# Altium footprint library aiskylab-08Optoelectronics.PcbLib: 57 footprints (part 3 of 4)
Each footprint in its own frame and in the unit in brackets; x right, y up, seen from the top. Pads: shape width x height; smd on the part's side, far side on the other; paste and mask are expansions set on the pad; w line width, h text height; cw(c..) or ccw(c..) is an arc to the next point about the centre after c.
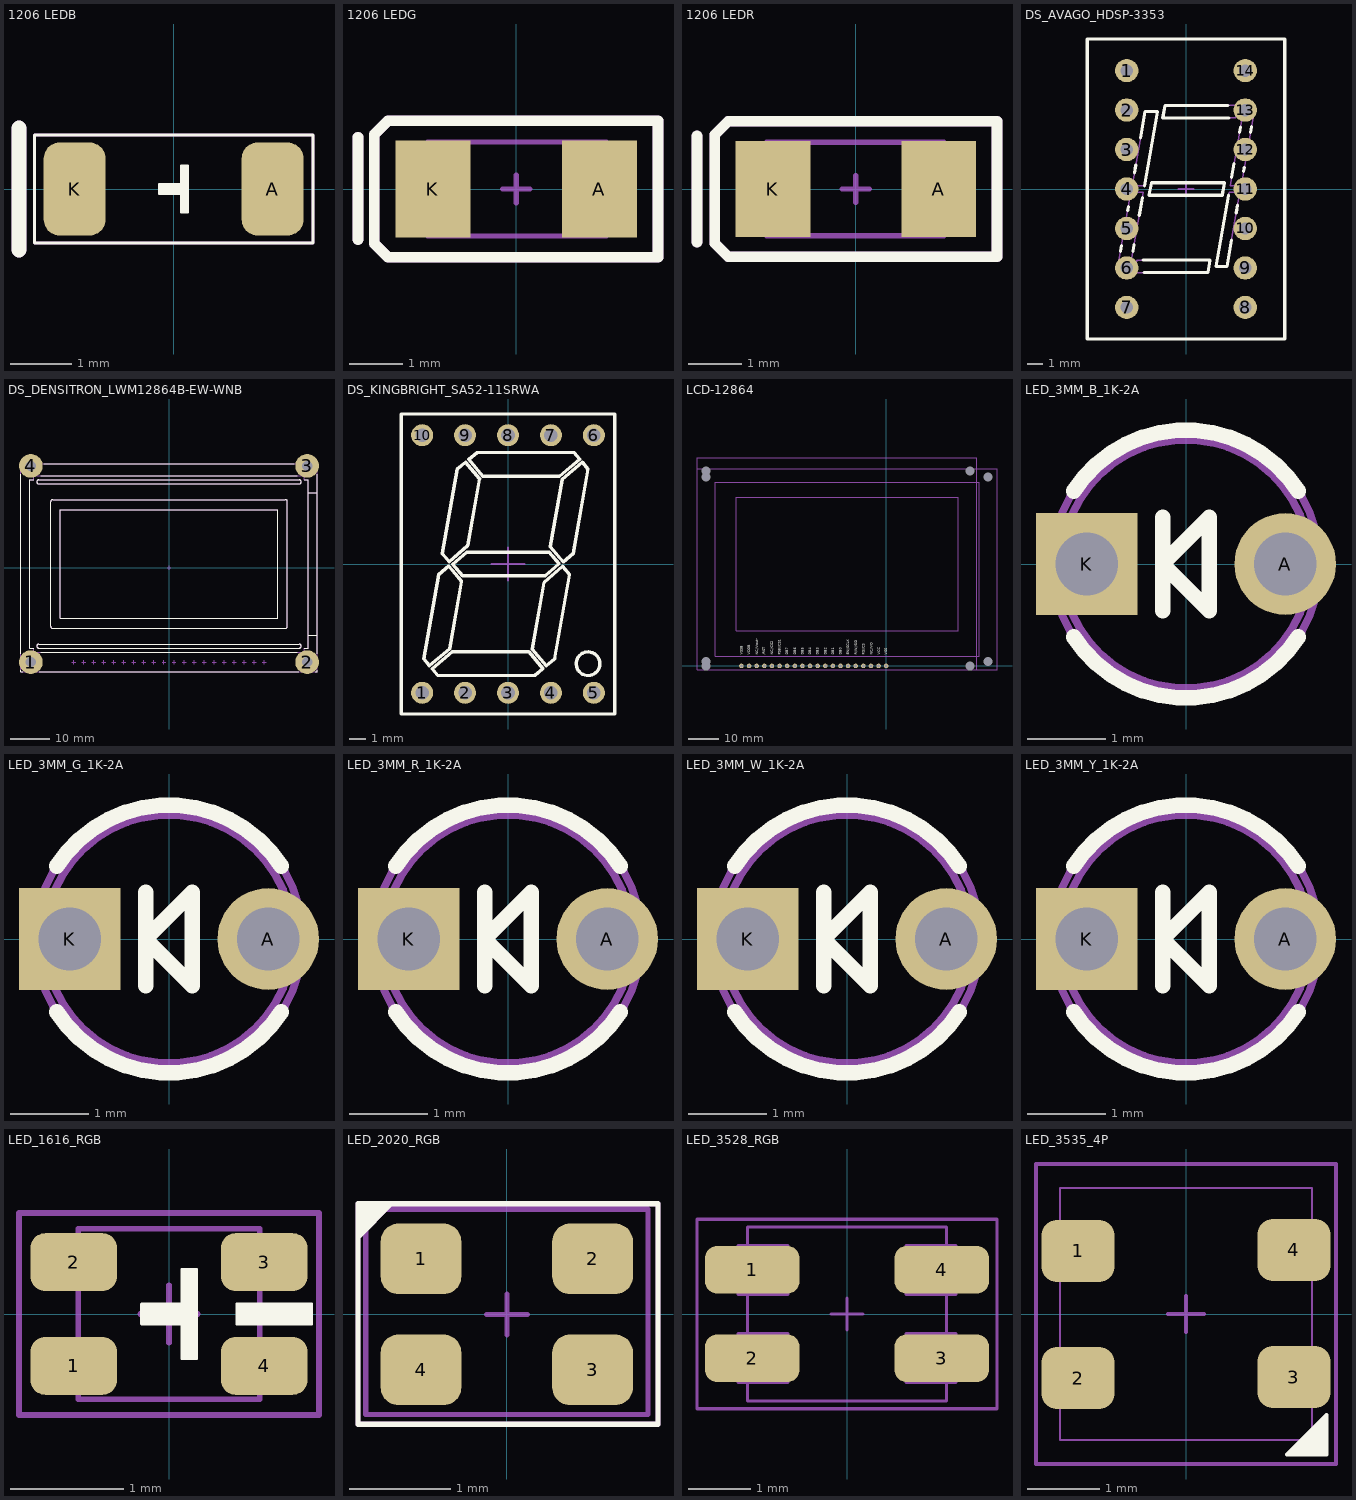
[diagram p2: the footprints below, top view; thin cyan lines are the x and y axes]

## 1206 LEDB [mil]
height 47.24
pads (2):
  rrect50% 40x60 smd: A(64,0) K(-64,0)
Top Overlay:
  region: 9.5,-15.5 4.5,-15.5 4.5,-3.5 -9.5,-3.5 -9.5,3.5 4.5,3.5 4.5,15.5 9.5,15.5
  lines w1: -9.5,-3.5 -9.5,3.5 4.5,3.5 4.5,15.5 9.5,15.5 9.5,-15.5 4.5,-15.5 4.5,-3.5 -9.5,-3.5
  lines w2: -90,-35 -90,35 90,35 90,-35 -90,-35
  lines w10: -100,-39.37 -100,39.37
Top Assembly:
  lines w2: -90,-35 -90,35 90,35 90,-35 -90,-35
  lines w10: -100,-39.37 -100,39.37
3D body "User Library-led_1206LED1206 blue.STEP": height 43.31, standoff 0, extent -63.39,-31.5 63.39,31.5

## 1206 LEDG [mm]
height 3.1
pads (2):
  rect 1.4x1.8 smd: A(1.55,0)
  rect 1.4x1.8 smd mask+0.07: K(-1.55,0)
Top Overlay:
  lines w0.2: -2.946,-0.94 -2.946,0.965 ; -2.642,-1.016 -2.642,1.016 -2.388,1.27 2.642,1.27 2.642,-1.27 -2.388,-1.27 -2.642,-1.016
Top Designator:
  text ".Designator" at -7.77,-0.508 h1.52
Top Assembly:
  lines w0.2: -2.946,-0.94 -2.946,0.965 ; -2.642,-1.016 -2.642,1.016 -2.388,1.27 2.642,1.27 2.642,-1.27 -2.388,-1.27 -2.642,-1.016
Top Component Center:
  lines w0.1: -0.254,0 0.254,0 ; 0,-0.254 0,0.254
Top Component Outline:
  lines w0.2: -2.946,-0.94 -2.946,0.965 ; -2.642,-1.016 -2.642,1.016 -2.388,1.27 2.642,1.27 2.642,-1.27 -2.388,-1.27 -2.642,-1.016
Top 3D Body:
  lines w0.1: -1.651,-0.876 -1.651,0.876 1.676,0.876 1.676,-0.876 -1.651,-0.876
3D body "1_64-1_4.stp": height 0.02, standoff 0, extent -2.248,-0.82 -0.848,0.82
3D body "1206-led-g.stp": height 1.39, standoff 0, extent -1.6,-0.808 1.6,0.808
3D body "1_64-1_4.stp": height 0.02, standoff 0, extent 0.849,-0.82 2.249,0.82

## 1206 LEDR [mm]
height 3.1
pads (2):
  rect 1.4x1.8 smd mask+0.07: A(1.55,0)
  rect 1.4x1.8 smd: K(-1.55,0)
Top Overlay:
  lines w0.2: -2.972,-0.991 -2.972,0.991 ; -2.642,-1.016 -2.388,-1.27 2.642,-1.27 2.642,1.27 -2.388,1.27 -2.642,1.016 -2.642,-1.016
Top Designator:
  text ".Designator" at -7.783,-0.508 h1.52
Top Assembly:
  lines w0.2: -2.972,-0.991 -2.972,0.991 ; -2.642,-1.016 -2.388,-1.27 2.642,-1.27 2.642,1.27 -2.388,1.27 -2.642,1.016 -2.642,-1.016
Top Component Center:
  lines w0.1: -0.254,0 0.254,0 ; 0,-0.254 0,0.254 0,-0.254
Top Component Outline:
  lines w0.2: -2.972,-0.991 -2.972,0.991 ; -2.642,-1.016 -2.388,-1.27 2.642,-1.27 2.642,1.27 -2.388,1.27 -2.642,1.016 -2.642,-1.016
Top 3D Body:
  lines w0.1: -1.664,-0.876 -1.664,0.876 1.651,0.876 1.651,-0.876 -1.664,-0.876
3D body "1_64-1_4.stp": height 0.02, standoff 0, extent -2.248,-0.82 -0.848,0.82
3D body "1206-led-r.stp": height 1.39, standoff 0, extent -1.6,-0.808 1.6,0.808
3D body "1_64-1_4.stp": height 0.02, standoff 0, extent 0.849,-0.82 2.249,0.82

## DS_AVAGO_HDSP-3353 [mm] "10.9mm Single Digit, Common Cathode, HER Seven Segment Display, Body 12.7x19.05mm"
height 7.87
pads (14):
  round 1.5 hole 0.8: 1(-3.81,7.62) 2(-3.81,5.08) 3(-3.81,2.54) 4(-3.81,0) 5(-3.81,-2.54) 6(-3.81,-5.08) 7(-3.81,-7.62) 8(3.81,-7.62) 9(3.81,-5.08) 10(3.81,-2.54) 11(3.81,0) 12(3.81,2.54) 13(3.81,5.08) 14(3.81,7.62)
Top Overlay:
  lines w0.2: -4.211,-4.002 -4.147,-3.64 ; -3.75,-1.392 -3.707,-1.145 ; -3.411,-4.002 -3.338,-3.589 ; -3.321,1.041 -3.232,1.546 ; -3.008,-1.716 -2.803,-0.555 ; -2.927,3.277 -2.627,4.977 -1.827,4.977 -2.67,0.2 -2.678,0.2 ; -2.776,-4.577 1.548,-4.577 1.407,-5.377 -2.699,-5.377 ; 2.699,5.377 -1.357,5.377 -1.498,4.577 2.776,4.577 ; 2.734,-0.405 1.927,-4.977 2.627,-4.977 2.927,-3.277 ; 2.937,0.749 3.094,1.64 ; 3.232,-1.546 3.321,-1.041 ; 3.445,3.631 3.505,3.971 ; 3.707,1.145 3.75,1.392 ; 4.147,3.64 4.211,4.002 ; -6.35,-9.65 -6.35,9.65 6.35,9.65 6.35,-9.65 -6.35,-9.65 ; -2.372,-0.4 2.331,-0.4 2.472,0.4 -2.231,0.4 -2.372,-0.4
Top Designator:
  text ".Designator" at -7.618,-0.508 h1.52
Top Assembly:
  lines w0.1: -6.35,-9.65 -6.35,9.65 6.35,9.65 6.35,-9.65 -6.35,-9.65 ; -4.383,-4.977 -3.583,-4.977 -2.74,-0.2 -3.54,-0.2 -4.383,-4.977 ; -3.47,0.2 -2.67,0.2 -1.827,4.977 -2.627,4.977 -3.47,0.2 ; -3.303,-5.377 -3.162,-4.577 1.548,-4.577 1.407,-5.377 -3.303,-5.377 ; -2.372,-0.4 -2.231,0.4 2.472,0.4 2.331,-0.4 -2.372,-0.4 ; -1.498,4.577 -1.357,5.377 3.353,5.377 3.212,4.577 -1.498,4.577 ; 1.927,-4.977 2.627,-4.977 3.47,-0.2 2.77,-0.2 1.927,-4.977 ; 2.84,0.2 3.54,0.2 4.383,4.977 3.683,4.977 2.84,0.2
Top Dimensions:
  lines w0.1: -4.31,-7.62 -3.81,-7.62 ; -4.31,-5.08 -3.81,-5.08 ; -4.31,-2.54 -3.81,-2.54 ; -4.31,0 -3.81,0 ; -4.31,2.54 -3.81,2.54 ; -4.31,5.08 -3.81,5.08 ; -4.31,7.62 -3.81,7.62 ; -3.81,-8.12 -3.81,-7.62 ; -3.81,-7.12 -3.81,-7.62 ; -3.81,-5.58 -3.81,-5.08 ; -3.81,-4.58 -3.81,-5.08 ; -3.81,-3.04 -3.81,-2.54 ; -3.81,-2.04 -3.81,-2.54 ; -3.81,-0.5 -3.81,0 ; -3.81,0.5 -3.81,0 ; -3.81,2.04 -3.81,2.54 ; -3.81,3.04 -3.81,2.54 ; -3.81,4.58 -3.81,5.08 ; -3.81,5.58 -3.81,5.08 ; -3.81,7.12 -3.81,7.62 ; -3.81,8.12 -3.81,7.62 ; -3.31,-7.62 -3.81,-7.62 ; -3.31,-5.08 -3.81,-5.08 ; -3.31,-2.54 -3.81,-2.54 ; -3.31,0 -3.81,0 ; -3.31,2.54 -3.81,2.54 ; -3.31,5.08 -3.81,5.08 ; -3.31,7.62 -3.81,7.62 ; -0.5,0 0,0 ; 0,-0.5 0,0 ; 0,0.5 0,0 ; 0.5,0 0,0 ; 3.31,-7.62 3.81,-7.62 ; 3.31,-5.08 3.81,-5.08 ; 3.31,-2.54 3.81,-2.54 ; 3.31,0 3.81,0 ; 3.31,2.54 3.81,2.54 ; 3.31,5.08 3.81,5.08 ; 3.31,7.62 3.81,7.62 ; 3.81,-8.12 3.81,-7.62 ; 3.81,-7.12 3.81,-7.62 ; 3.81,-5.58 3.81,-5.08 ; 3.81,-4.58 3.81,-5.08 ; 3.81,-3.04 3.81,-2.54 ; 3.81,-2.04 3.81,-2.54 ; 3.81,-0.5 3.81,0 ; 3.81,0.5 3.81,0 ; 3.81,2.04 3.81,2.54 ; 3.81,3.04 3.81,2.54 ; 3.81,4.58 3.81,5.08 ; 3.81,5.58 3.81,5.08 ; 3.81,7.12 3.81,7.62 ; 3.81,8.12 3.81,7.62 ; 4.31,-7.62 3.81,-7.62 ; 4.31,-5.08 3.81,-5.08 ; 4.31,-2.54 3.81,-2.54 ; 4.31,0 3.81,0 ; 4.31,2.54 3.81,2.54 ; 4.31,5.08 3.81,5.08 ; 4.31,7.62 3.81,7.62
3D body "DS_AVAGO_HDSP-3353.stp": height 7.87, standoff -3.6, extent -6.35,-9.65 6.35,9.65

## DS_DENSITRON_LWM12864B-EW-WNB [mm] "LCD Display Module, 128x64 Dots,Transmissive Negative, BL White LED, Wide Temp, Negative Voltage Generator, STN Blue"
height 8.9
pads (4):
  round 6 hole 2.6: 1(-35,-23.85) 2(35,-23.85) 3(35,25.85) 4(-35,25.85)
Top Overlay:
  lines w0.2: -37.5,-25.927 -37.5,-26.35 -37.077,-26.35 ; -37.5,-21.773 -37.5,23.773 ; -34.3,-20.3 -35.3,-20.3 -35.3,22.3 -34.3,22.3 ; -32.923,-26.35 32.923,-26.35 ; -32.5,-21.3 32.5,-21.3 ; -32.5,23.3 32.5,23.3 ; -31.789,26.35 31.789,26.35 ; 34.3,-20.3 35.3,-20.3 35.3,22.3 34.3,22.3 ; 35.3,-17 37.5,-17 ; 35.3,19 37.5,19 ; 37.077,-26.35 37.5,-26.35 37.5,-25.927 ; 37.5,-21.773 37.5,23.773 ; -33,-20.3 cw(c-33,-19.8) -33,-19.3 33,-19.3 cw(c33,-19.8) 33,-20.3 -33,-20.3 ; -33,21.3 cw(c-33,21.8) -33,22.3 33,22.3 cw(c33,21.8) 33,21.3 -33,21.3 ; -30,-14.8 ccw(c-29.5,-14.8) -29.5,-15.3 29.5,-15.3 ccw(c29.5,-14.8) 30,-14.8 30,16.8 ccw(c29.5,16.8) 29.5,17.3 -29.5,17.3 ccw(c-29.5,16.8) -30,16.8 -30,-14.8 ; -27.5,-12.74 -27.5,14.74 27.5,14.74 27.5,-12.74 -27.5,-12.74
Top Designator:
  text ".Designator" at -7.618,0.492 h1.52
Top Assembly:
  circle w0.1: c35,-23.85 r1.25
  circle w0.1: c-35,-23.85 r1.25
  lines w0.1: 35.3,-17 37.5,-17 ; 35.3,19 37.5,19 ; -37.5,-26.35 37.5,-26.35 37.5,26.35 35.866,26.35 cw(c35,25.85) 34.134,26.35 -34.134,26.35 cw(c-35,25.85) -35.866,26.35 -37.5,26.35 -37.5,-26.35 ; -35.3,-20.3 -34.3,-20.3 -34.3,-21.3 34.3,-21.3 34.3,-20.3 35.3,-20.3 35.3,22.3 34.3,22.3 34.3,23.3 -34.3,23.3 -34.3,22.3 -35.3,22.3 -35.3,-20.3 ; -33,-20.3 cw(c-33,-19.8) -33,-19.3 33,-19.3 cw(c33,-19.8) 33,-20.3 -33,-20.3 ; -33,21.3 cw(c-33,21.8) -33,22.3 33,22.3 cw(c33,21.8) 33,21.3 -33,21.3 ; -30,-14.8 ccw(c-29.5,-14.8) -29.5,-15.3 29.5,-15.3 ccw(c29.5,-14.8) 30,-14.8 30,16.8 ccw(c29.5,16.8) 29.5,17.3 -29.5,17.3 ccw(c-29.5,16.8) -30,16.8 -30,-14.8 ; -27.5,-12.74 27.5,-12.74 27.5,14.74 -27.5,14.74 -27.5,-12.74
Top Dimensions:
  lines w0.1: -35.5,-23.85 -35,-23.85 ; -35.5,25.85 -35,25.85 ; -35,-24.35 -35,-23.85 ; -35,-23.35 -35,-23.85 ; -35,25.35 -35,25.85 ; -35,26.35 -35,25.85 ; -34.5,-23.85 -35,-23.85 ; -34.5,25.85 -35,25.85 ; -24.63,-23.85 -24.13,-23.85 ; -24.13,-24.35 -24.13,-23.85 ; -24.13,-23.35 -24.13,-23.85 ; -23.63,-23.85 -24.13,-23.85 ; -22.09,-23.85 -21.59,-23.85 ; -21.59,-24.35 -21.59,-23.85 ; -21.59,-23.35 -21.59,-23.85 ; -21.09,-23.85 -21.59,-23.85 ; -19.55,-23.85 -19.05,-23.85 ; -19.05,-24.35 -19.05,-23.85 ; -19.05,-23.35 -19.05,-23.85 ; -18.55,-23.85 -19.05,-23.85 ; -17.01,-23.85 -16.51,-23.85 ; -16.51,-24.35 -16.51,-23.85 ; -16.51,-23.35 -16.51,-23.85 ; -16.01,-23.85 -16.51,-23.85 ; -14.47,-23.85 -13.97,-23.85 ; -13.97,-24.35 -13.97,-23.85 ; -13.97,-23.35 -13.97,-23.85 ; -13.47,-23.85 -13.97,-23.85 ; -11.93,-23.85 -11.43,-23.85 ; -11.43,-24.35 -11.43,-23.85 ; -11.43,-23.35 -11.43,-23.85 ; -10.93,-23.85 -11.43,-23.85 ; -9.39,-23.85 -8.89,-23.85 ; -8.89,-24.35 -8.89,-23.85 ; -8.89,-23.35 -8.89,-23.85 ; -8.39,-23.85 -8.89,-23.85 ; -6.85,-23.85 -6.35,-23.85 ; -6.35,-24.35 -6.35,-23.85 ; -6.35,-23.35 -6.35,-23.85 ; -5.85,-23.85 -6.35,-23.85 ; -4.31,-23.85 -3.81,-23.85 ; -3.81,-24.35 -3.81,-23.85 ; -3.81,-23.35 -3.81,-23.85 ; -3.31,-23.85 -3.81,-23.85 ; -1.77,-23.85 -1.27,-23.85 ; -1.27,-24.35 -1.27,-23.85 ; -1.27,-23.35 -1.27,-23.85 ; -0.77,-23.85 -1.27,-23.85 ; -0.5,0 0,0 ; 0,-0.5 0,0 ; 0,0.5 0,0 ; 0.5,0 0,0 ; 0.77,-23.85 1.27,-23.85 ; 1.27,-24.35 1.27,-23.85 ; 1.27,-23.35 1.27,-23.85 ; 1.77,-23.85 1.27,-23.85 ; 3.31,-23.85 3.81,-23.85 ; 3.81,-24.35 3.81,-23.85 ; 3.81,-23.35 3.81,-23.85 ; 4.31,-23.85 3.81,-23.85 ; 5.85,-23.85 6.35,-23.85 ; 6.35,-24.35 6.35,-23.85 ; 6.35,-23.35 6.35,-23.85 ; 6.85,-23.85 6.35,-23.85 ; 8.39,-23.85 8.89,-23.85 ; 8.89,-24.35 8.89,-23.85 ; 8.89,-23.35 8.89,-23.85 ; 9.39,-23.85 8.89,-23.85 ; 10.93,-23.85 11.43,-23.85 ; 11.43,-24.35 11.43,-23.85 ; 11.43,-23.35 11.43,-23.85 ; 11.93,-23.85 11.43,-23.85 ; 13.47,-23.85 13.97,-23.85 ; 13.97,-24.35 13.97,-23.85 ; 13.97,-23.35 13.97,-23.85 ; 14.47,-23.85 13.97,-23.85 ; 16.01,-23.85 16.51,-23.85 ; 16.51,-24.35 16.51,-23.85 ; 16.51,-23.35 16.51,-23.85 ; 17.01,-23.85 16.51,-23.85 ; 18.55,-23.85 19.05,-23.85 ; 19.05,-24.35 19.05,-23.85 ; 19.05,-23.35 19.05,-23.85 ; 19.55,-23.85 19.05,-23.85 ; 21.09,-23.85 21.59,-23.85 ; 21.59,-24.35 21.59,-23.85 ; 21.59,-23.35 21.59,-23.85 ; 22.09,-23.85 21.59,-23.85 ; 23.63,-23.85 24.13,-23.85 ; 24.13,-24.35 24.13,-23.85 ; 24.13,-23.35 24.13,-23.85 ; 24.63,-23.85 24.13,-23.85 ; 34.5,-23.85 35,-23.85 ; 34.5,25.85 35,25.85 ; 35,-24.35 35,-23.85 ; 35,-23.35 35,-23.85 ; 35,25.35 35,25.85 ; 35,26.35 35,25.85 ; 35.5,-23.85 35,-23.85 ; 35.5,25.85 35,25.85
3D body "DS_DENSITRON_LWM12864B-EW-WNB.stp": height 8.9, standoff 0, extent -37.5,-26.35 37.5,26.35

## DS_KINGBRIGHT_SA52-11SRWA [mm] "13.2mm Single Digit Numeric Red Display, Body 12.65x17.75mm"
height 7.25
pads (10):
  round 1.3 hole 0.8: 1(-5.08,-7.62) 2(-2.54,-7.62) 3(0,-7.62) 4(2.54,-7.62) 5(5.08,-7.62) 6(5.08,7.62) 7(2.54,7.62) 8(0,7.62) 9(-2.54,7.62) 10(-5.08,7.62)
Top Overlay:
  circle w0.2: c4.735,-5.9 r0.7
  lines w0.2: -6.325,-8.875 6.325,-8.875 6.325,8.875 -6.325,8.875 -6.325,-8.875 ; -4.982,-5.615 -4.101,-0.617 -3.508,-0.12 -2.751,-1.021 -3.454,-5.008 -4.649,-6.012 -4.982,-5.615 ; -4.489,-6.203 -4.156,-6.6 1.582,-6.6 2.073,-6.188 1.244,-5.2 -3.293,-5.2 -4.489,-6.203 ; -3.883,0.617 -3.002,5.615 -2.511,6.027 -1.682,5.039 -2.377,1.095 -3.472,0.127 -3.883,0.617 ; -3.264,-0.022 -2.694,-0.7 2.2,-0.7 3.017,0.022 2.447,0.7 -2.447,0.7 -3.264,-0.022 ; -2.32,6.188 -1.491,5.2 3.046,5.2 4.242,6.203 3.909,6.6 -1.828,6.6 -2.32,6.188 ; 1.435,-5.039 2.131,-1.095 3.225,-0.127 3.636,-0.617 2.755,-5.615 2.264,-6.027 1.435,-5.039 ; 2.504,1.021 3.207,5.008 4.403,6.012 4.735,5.615 3.854,0.617 3.261,0.12 2.504,1.021
Top Designator:
  text ".Designator" at -7.618,-0.508 h1.52
Top Assembly:
  circle w0.1: c4.735,-5.9 r0.7
  lines w0.1: -6.325,-8.875 6.325,-8.875 6.325,8.875 -6.325,8.875 -6.325,-8.875 ; -4.982,-5.615 -4.101,-0.617 -3.508,-0.12 -2.751,-1.021 -3.454,-5.008 -4.649,-6.012 -4.982,-5.615 ; -4.489,-6.203 -3.293,-5.2 1.244,-5.2 2.073,-6.188 1.582,-6.6 -4.156,-6.6 -4.489,-6.203 ; -3.883,0.617 -3.002,5.615 -2.511,6.027 -1.682,5.039 -2.377,1.095 -3.472,0.127 -3.883,0.617 ; -3.264,-0.022 -2.694,-0.7 2.2,-0.7 3.017,0.022 2.447,0.7 -2.447,0.7 -3.264,-0.022 ; -2.32,6.188 -1.491,5.2 3.046,5.2 4.242,6.203 3.909,6.6 -1.828,6.6 -2.32,6.188 ; 1.435,-5.039 2.131,-1.095 3.225,-0.127 3.636,-0.617 2.755,-5.615 2.264,-6.027 1.435,-5.039 ; 2.504,1.021 3.207,5.008 4.403,6.012 4.735,5.615 3.854,0.617 3.261,0.12 2.504,1.021
Top Dimensions:
  lines w0.1: -5.53,-7.62 -5.08,-7.62 -5.08,-8.07 ; -5.53,7.62 -5.08,7.62 -5.08,7.17 ; -2.99,-7.62 -2.54,-7.62 -2.54,-8.07 ; -2.99,7.62 -2.54,7.62 -2.54,7.17 ; -1,0 1,0 ; -0.45,-7.62 0,-7.62 0,-8.07 ; -0.45,7.62 0,7.62 0,7.17 ; 0,-1 0,1 ; 2.09,-7.62 2.54,-7.62 2.54,-8.07 ; 2.09,7.62 2.54,7.62 2.54,7.17 ; 4.63,-7.62 5.08,-7.62 5.08,-8.07 ; 4.63,7.62 5.08,7.62 5.08,7.17 ; -5.33,-7.745 -4.83,-7.745 -4.83,-7.495 -5.33,-7.495 -5.33,-7.745 ; -5.33,7.495 -4.83,7.495 -4.83,7.745 -5.33,7.745 -5.33,7.495 ; -2.79,-7.745 -2.29,-7.745 -2.29,-7.495 -2.79,-7.495 -2.79,-7.745 ; -2.79,7.495 -2.29,7.495 -2.29,7.745 -2.79,7.745 -2.79,7.495 ; -0.25,-7.745 0.25,-7.745 0.25,-7.495 -0.25,-7.495 -0.25,-7.745 ; -0.25,7.495 0.25,7.495 0.25,7.745 -0.25,7.745 -0.25,7.495 ; 2.29,-7.745 2.79,-7.745 2.79,-7.495 2.29,-7.495 2.29,-7.745 ; 2.29,7.495 2.79,7.495 2.79,7.745 2.29,7.745 2.29,7.495 ; 4.83,-7.745 5.33,-7.745 5.33,-7.495 4.83,-7.495 4.83,-7.745 ; 4.83,7.495 5.33,7.495 5.33,7.745 4.83,7.745 4.83,7.495
3D body "DS_KINGBRIGHT_SA52-11SRWA.stp": height 7.1, standoff -3.6, extent -6.325,-8.875 6.325,8.875

## LCD-12864 [mil] "HD35-12864 & 显白"
height 334.65
pads (28):
  round 60 hole 39.37: 1(0,0) 2(-100,0) 3(-200,0) 4(-300,0) 5(-400,0) 6(-500,0) 7(-600,0) 8(-700,0) 9(-800,0) 10(-899.21,0) 11(-1000,0) 12(-1100,0) 13(-1200,0) 14(-1300,0) 15(-1400,0) 16(-1500,0) 17(-1600,0) 18(-1700,0) 19(-1800,0) 20(-1900,0)
  round 60 hole 118.11: #(-2364.57,61.02) #(-2364.57,2482.28) #(-2364.57,2561.02) #(-2364.57,0) #(1100,0) #(1100,2561.02) #(1336.22,61.02) #(1336.22,2482.28)
Top Overlay:
  text "VSS" at 14.5,146.5 h35.43
  text "VCC" at -79.5,144.5 h35.43
  text "NC//VO" at -179.5,146.5 h35.43
  text "RS//CS" at -281.5,146.5 h35.43
  text "R/W//SID" at -382.5,146.5 h35.43
  text "EN//SCLK" at -482.5,146.5 h35.43
  text "DB0" at -583.5,146.5 h35.43
  text "DB1" at -683.5,146.5 h35.43
  text "DB2" at -783.5,146.5 h35.43
  text "DB3" at -885.5,146.5 h35.43
  text "DB4" at -984.5,146.5 h35.43
  text "DB5" at -1085.5,146.5 h35.43
  text "DB6" at -1183.5,146.5 h35.43
  text "DB7" at -1282.5,146.5 h35.43
  text "PSB//CS1" at -1383.5,146.5 h35.43
  text "NC//CS2" at -1483.5,146.5 h35.43
  text "/RST" at -1584.5,146.5 h35.43
  text "NC//Vout-" at -1682.5,146.5 h35.43
  text "VDDB" at -1782.5,146.5 h35.43
  text "VSSB" at -1880.5,146.5 h35.43
Top Designator:
  text ".Designator" at -815.74,1320.73 h60
Top Assembly:
  lines w0.39: -2246.46,126.65 -2246.46,2410.12 1218.11,2410.12 1218.11,126.65 -2246.46,126.65 ; -1970.87,460 -1970.87,2213.27 942.52,2213.27 942.52,460 -1970.87,460
  lines w5: -2483.17,2590.55 1453.5,2590.55 ; -2482.68,2590.55 -2482.68,-47.24 1454.33,-47.24 1454.33,2590.5
Top Component Outline:
  lines w10: -2483.5,2735.5 1190.5,2735.5 1190.5,-47.24 -2482.68,-47.24 -2482.68,2735.5
3D body "lcd-12864.stp": height 511.81, standoff 92.52, extent -2483.5,-47.5 1453.5,2590.29

## LED_3MM_B_1K-2A [mm]
height 1.2
pads (2):
  round 1.3 hole 0.8: A(1.27,0)
  rect 1.3x1.3 hole 0.8: K(-1.27,0)
Top Overlay:
  lines w0.2: -1.438,-0.934 ccw(c0,0) 1.438,-0.934 ; -1.438,0.934 cw(c0,0) 1.438,0.934 ; -0.3,-0.6 -0.3,0.6 ; -0.3,0 0.3,0.6 0.3,-0.6 -0.3,0
Top Assembly:
  circle w0.1: c0,0 r1.59
  circle w0.1: c0,0 r1.715
  lines w0.1: -0.3,-0.6 -0.3,0.6 ; -0.3,0 0.3,-0.6 0.3,0.6 -0.3,0
3D body "User Library-LED_d3-BLU.STEP": height 4.98, standoff -2.5, extent -1.607,-1.651 1.607,1.646

## LED_3MM_G_1K-2A [mm] "LED, Green, Body Dia. 3.43 mm, Pin spacing 2.54mm"
height 6.35
pads (2):
  round 1.3 hole 0.8: A(1.27,0)
  rect 1.3x1.3 hole 0.8: K(-1.27,0)
Top Overlay:
  lines w0.2: -1.438,-0.934 ccw(c0,0) 1.438,-0.934 ; -1.438,0.934 cw(c0,0) 1.438,0.934 ; -0.3,-0.6 -0.3,0.6 ; -0.3,0 0.3,-0.6 0.3,0.6 -0.3,0
Top Designator:
  text ".Designator" at -7.618,-0.508 h1.52
Top Assembly:
  circle w0.1: c0,0 r1.715
  circle w0.1: c0,0 r1.59
  lines w0.1: -0.3,-0.6 -0.3,0.6 ; -0.3,0 0.3,0.6 0.3,-0.6 -0.3,0
3D body "LED_3MM_GREEN_v.stp": height 9.85, standoff -3.5, extent -1.715,-1.715 1.715,1.715

## LED_3MM_R_1K-2A [mm] "LED, Red, Body Dia. 3.43 mm, Pin spacing 2.54mm"
height 6.35
pads (2):
  round 1.3 hole 0.8: A(1.27,0)
  rect 1.3x1.3 hole 0.8: K(-1.27,0)
Top Overlay:
  lines w0.2: -1.438,-0.934 ccw(c0,0) 1.438,-0.934 ; -1.438,0.934 cw(c0,0) 1.438,0.934 ; -0.3,-0.6 -0.3,0.6 ; -0.3,0 0.3,0.6 0.3,-0.6 -0.3,0
Top Designator:
  text ".Designator" at -7.618,-0.508 h1.52
Top Assembly:
  circle w0.1: c0,0 r1.59
  circle w0.1: c0,0 r1.715
  lines w0.1: -0.3,-0.6 -0.3,0.6 ; -0.3,0 0.3,-0.6 0.3,0.6 -0.3,0
3D body "LED_3MM_RED_v.stp": height 9.85, standoff -3.5, extent -1.715,-1.715 1.715,1.715

## LED_3MM_W_1K-2A [mm]
height 1.2
pads (2):
  round 1.3 hole 0.8: A(1.27,0)
  rect 1.3x1.3 hole 0.8: K(-1.27,0)
Top Overlay:
  lines w0.2: -1.438,-0.934 ccw(c0,0) 1.438,-0.934 ; -1.438,0.934 cw(c0,0) 1.438,0.934 ; -0.3,-0.6 -0.3,0.6 ; -0.3,0 0.3,-0.6 0.3,0.6 -0.3,0
Top Assembly:
  circle w0.1: c0,0 r1.715
  circle w0.1: c0,0 r1.59
  lines w0.1: -0.3,-0.6 -0.3,0.6 ; -0.3,0 0.3,0.6 0.3,-0.6 -0.3,0
3D body "User Library-LED_d3-BLU.STEP": height 4.98, standoff -2.5, extent -1.607,-1.651 1.607,1.646

## LED_3MM_Y_1K-2A [mm] "LED, Red, Body Dia. 3.43 mm, Pin spacing 2.54mm"
height 6.35
pads (2):
  round 1.3 hole 0.8: A(1.27,0)
  rect 1.3x1.3 hole 0.8: K(-1.27,0)
Top Overlay:
  lines w0.2: -1.438,-0.934 ccw(c0,0) 1.438,-0.934 ; -1.438,0.934 cw(c0,0) 1.438,0.934 ; -0.3,-0.6 -0.3,0.6 ; -0.3,0 0.3,-0.6 0.3,0.6 -0.3,0
Top Designator:
  text ".Designator" at -7.618,-0.508 h1.52
Top Assembly:
  circle w0.1: c0,0 r1.59
  circle w0.1: c0,0 r1.715
  lines w0.1: -0.3,-0.6 -0.3,0.6 ; -0.3,0 0.3,-0.6 0.3,0.6 -0.3,0
3D body "LED_3MM_YELLOW_v.stp": height 9.85, standoff -3.5, extent -1.715,-1.715 1.715,1.715

## LED_1616_RGB [mil]
height 47.24
pads (4):
  rrect50% 30x20 smd: 1(-33,-18) 2(-33,18) 3(33,18) 4(33,-18)
Top Overlay:
  region: 9.5,-15.5 4.5,-15.5 4.5,-3.5 -9.5,-3.5 -9.5,3.5 4.5,3.5 4.5,15.5 9.5,15.5
  region: 49.5,3.5 23.5,3.5 23.5,-3.5 49.5,-3.5
  lines w1: -9.5,-3.5 -9.5,3.5 4.5,3.5 4.5,15.5 9.5,15.5 9.5,-15.5 4.5,-15.5 4.5,-3.5 -9.5,-3.5 ; 23.5,-3.5 49.5,-3.5 49.5,3.5 23.5,3.5 23.5,-3.5
Bottom Value:
  lines w2: -10,0 10,0 ; 0,-10 0,10 ; -31.49,-29.52 -31.49,29.53 31.5,29.53 31.5,-29.52 -31.49,-29.52
Top 3D Body:
  lines w2: -52,-35 52,-35 52,35 -52,35 -52,-35
  text ".Designator" at -30,-20 h80
3D body "User Library-HSMF-C114.STEP": height 13.39, standoff -0.39, extent -31.49,-29.52 31.5,29.53

## LED_2020_RGB [mm]
pads (4):
  rrect50% 0.8x0.7 smd: 1(-0.85,0.55) 2(0.85,0.55) 3(0.85,-0.55) 4(-0.85,-0.55)
Top Overlay:
  region: -1.474,1.096 -1.474,0.766 -1.144,1.096
  lines w0.051: -1.474,0.766 -1.144,1.096 ; -1.474,-1.088 1.498,-1.088 1.498,1.096 -1.474,1.096 -1.474,-1.088
Top Assembly:
  region: -1.474,1.096 -1.474,0.766 -1.144,1.096
  lines w0.051: -1.474,0.766 -1.144,1.096 ; -1.474,-1.088 1.498,-1.088 1.498,1.096 -1.474,1.096 -1.474,-1.088
Top Component Center:
  lines w0.05: -0.203,0 0.203,0 ; 0,-0.203 0,0.203
Top 3D Body:
  lines w0.051: -1.397,-0.991 1.397,-0.991 1.397,1.041 -1.397,1.041 -1.397,-0.991
  text ".Designator" at -0.762,-0.508 h2.03
3D body: height 0.25, standoff 0, extent -1.562,0.127 -0.267,0.991
3D body: height 0.25, standoff 0, extent -1.562,-0.965 -0.267,-0.102
3D body: height 0.25, standoff 0, extent 0.267,-0.965 1.562,-0.102
3D body: height 0.25, standoff 0, extent 0.267,0.127 1.562,0.991
3D body: height 1, standoff 0.05, extent -1.397,-0.991 1.397,1.041
3D body: height 1.15, standoff 0.1, extent -0.694,-0.698 0.7,0.699
3D body: height 1.2, standoff 1, extent -0.373,0.12 0.377,0.37
3D body: height 1.2, standoff 1, extent -0.373,-0.13 0.377,0.12
3D body: height 1.2, standoff 1, extent -0.373,-0.38 0.377,-0.13

## LED_3528_RGB [mil]
height 47.24
pads (4):
  rrect50% 60x30 smd: 1(-60,28) 2(-60,-28) 3(60,-28) 4(60,28)
Bottom Value:
  lines w2: -62.99,-43.43 -62.99,-55.12 62.99,-55.12 62.99,-43.43 ; -62.99,-12.4 -62.99,12.4 ; -62.99,43.43 -62.99,55.12 62.99,55.12 62.99,43.43 ; -10,0 10,0 ; 0,-10 0,10 ; 62.99,-12.4 62.99,12.4 ; -68.9,-43.31 -37.4,-43.31 -37.4,-12.4 -68.9,-12.4 -68.9,-43.31 ; -68.9,12.4 -37.4,12.4 -37.4,43.31 -68.9,43.31 -68.9,12.4 ; 37.4,-43.31 68.9,-43.31 68.9,-12.4 37.4,-12.4 37.4,-43.31 ; 37.4,12.4 68.9,12.4 68.9,43.31 37.4,43.31 37.4,12.4
Top 3D Body:
  lines w2: -95,-60 -95,60 95,60 95,-60 -95,-60
  text ".Designator" at -30,-20 h80
3D body "User Library-KAA-3528.STEP": height 74.8, standoff 0, extent -68.9,-55.12 68.9,55.11

## LED_3535_4P [mil]
pads (4):
  rrect50% 40x34 smd: 1(-59,34.45) 2(-59,-35) 3(59,-34.45) 4(59,35)
Top Overlay:
  region: 77,-77 55,-77 77,-55
  lines w2: 55,-77 77,-55 77,-77 55,-77
Bottom Value:
  lines w1: -68.9,-68.9 -68.9,68.9 68.9,68.9 68.9,-68.9 -68.9,-68.9
  lines w2: -10,0 10,0 ; 0,-10 0,10
Top 3D Body:
  lines w2: -82,-82 -82,82 82,82 82,-82 -82,-82
  text ".Designator" at -30,-20 h80
3D body "User Library-HP-XI3535.STEP": height 25.59, standoff -0.04, extent -68.9,-68.9 68.9,68.89